# Altium footprint library ESP32-D0WD.PcbLib: 1 footprints
Each footprint in its own frame and in the unit in brackets; x right, y up, seen from the top. Pads: shape width x height; smd on the part's side, far side on the other; paste and mask are expansions set on the pad; w line width, h text height; cw(c..) or ccw(c..) is an arc to the next point about the centre after c.
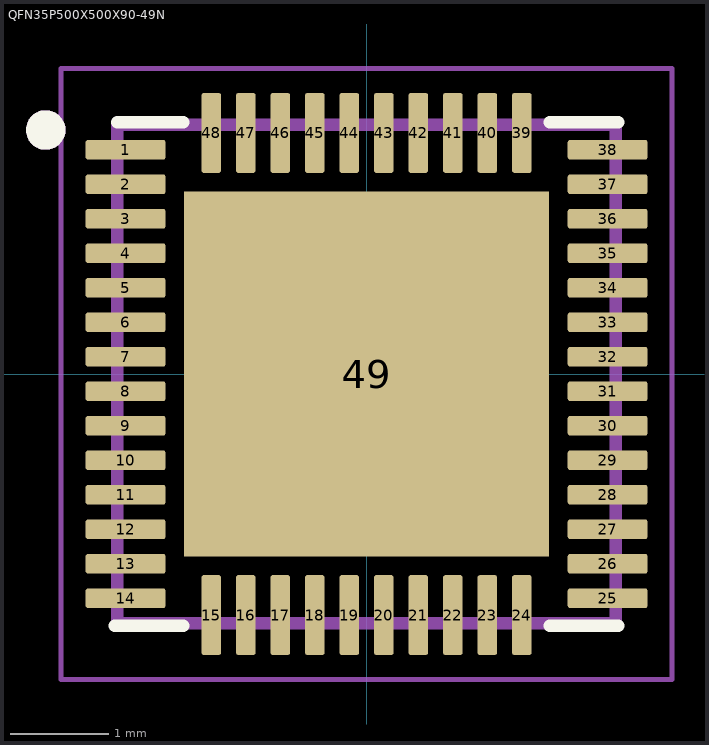
[diagram p0: the footprint, top view; thin cyan lines are the x and y axes]

## QFN35P500X500X90-49N [mm]
pads (49):
  rrect25% 0.81x0.2 smd: 1(-2.445,2.275) 2(-2.445,1.925) 3(-2.445,1.575) 4(-2.445,1.225) 5(-2.445,0.875) 6(-2.445,0.525) 7(-2.445,0.175) 8(-2.445,-0.175) 9(-2.445,-0.525) 10(-2.445,-0.875) 11(-2.445,-1.225) 12(-2.445,-1.575) 13(-2.445,-1.925) 14(-2.445,-2.275) 25(2.445,-2.275) 26(2.445,-1.925) 27(2.445,-1.575) 28(2.445,-1.225) 29(2.445,-0.875) 30(2.445,-0.525) 31(2.445,-0.175) 32(2.445,0.175) 33(2.445,0.525) 34(2.445,0.875) 35(2.445,1.225) 36(2.445,1.575) 37(2.445,1.925) 38(2.445,2.275)
  rrect25% 0.2x0.81 smd: 15(-1.575,-2.445) 16(-1.225,-2.445) 17(-0.875,-2.445) 18(-0.525,-2.445) 19(-0.175,-2.445) 20(0.175,-2.445) 21(0.525,-2.445) 22(0.875,-2.445) 23(1.225,-2.445) 24(1.575,-2.445) 39(1.575,2.445) 40(1.225,2.445) 41(0.875,2.445) 42(0.525,2.445) 43(0.175,2.445) 44(-0.175,2.445) 45(-0.525,2.445) 46(-0.875,2.445) 47(-1.225,2.445) 48(-1.575,2.445)
  rect 3.7x3.7 smd paste-3: 49(0,0)
Top Overlay:
  circle w0.2: c-3.255,2.475 r0.1
  lines w0.127: -2.555,-2.555 -1.86,-2.555 ; -2.53,2.555 -1.86,2.555 ; 1.86,-2.555 2.555,-2.555 ; 1.86,2.555 2.555,2.555
Mechanical 13:
  circle w0.2: c-3.255,2.475 r0.1
  lines w0.127: -2.53,-2.53 -2.53,2.53 2.53,2.53 2.53,-2.53 -2.53,-2.53
Mechanical 15:
  lines w0.05: -3.1,-3.1 -3.1,3.1 3.1,3.1 3.1,-3.1 -3.1,-3.1
3D body "step_temp.STEP": height 0.9, standoff 0, extent -2.5,-2.5 2.5,2.5